# Altium schematic symbol library SE_Lib.SchLib: 12 symbols
Pins are listed as number, name and electrical type; pins without a type are passive.

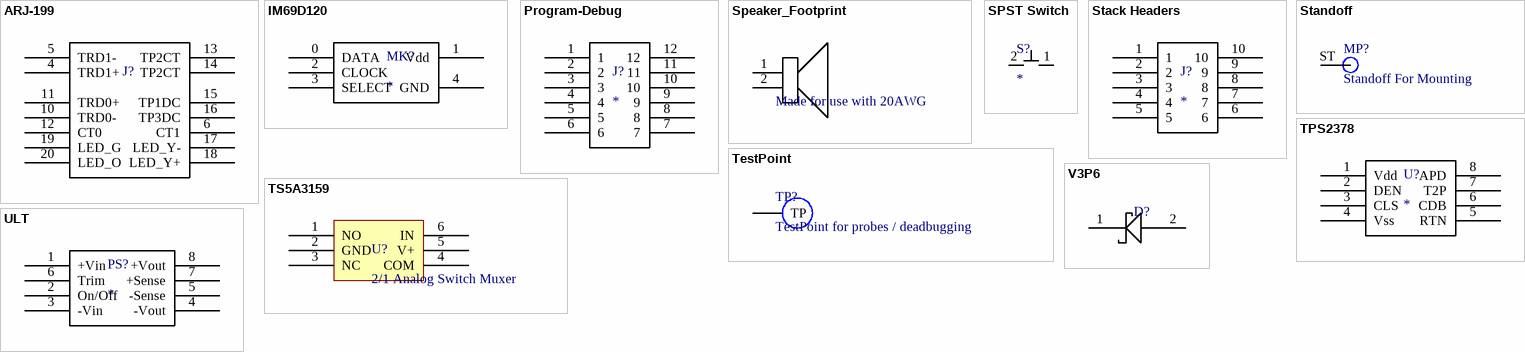
[diagram p0: symbols ARJ-199 to V3P6]

## ARJ-199
designator J?
MagJack POE+ Jack
footprint ARJ-199 (MagJack for POE+ Applications)
pins: 4 TRD1+, 5 TRD1-, 6 CT1, 10 TRD0-, 11 TRD0+, 12 CT0, 13 TP2CT, 14 TP2CT, 15 TP1DC, 16 TP3DC, 17 LED_Y-, 18 LED_Y+, 19 LED_G, 20 LED_O

## IM69D120
designator MK?
High Performance MEMS microphone utilizing PDM; ComponentLink1Description: Datasheet; ComponentLink1URL: https://www.infineon.com/dgdl/Infineon-IM69D120-DS-v01_00-EN.pdf?fileId=5546d462602a9dc801607a0e41a01a2b
footprint M69D120 (MEMS Microphone Package); pin to pad 0>1 1>2 2>3 3>4 4>5
pins: 0 DATA, 1 Vdd, 2 CLOCK, 3 SELECT, 4 GND

## Program-Debug
designator J?
footprint SSW_Double_Header (For Use with Programming and debug headers)
pins: 1, 2, 3, 4, 5, 6, 7, 8, 9, 10, 11, 12

## Speaker_Footprint
designator General Speaker Footprint, comment Made for use with 20AWG
footprint Speaker
pins: 1 3, 2 4

## SPST Switch
designator S?
footprint TL1105 (Right Angle button footprint)
pins: 1, 2

## Stack Headers
designator J?
footprint TSW-105 (For use in the stack as the upfacing connection)
footprint SSW-105 (For use in the stack as the downfacing connection)
pins: 1, 2, 3, 4, 5, 6, 7, 8, 9, 10

## Standoff
designator MP?, comment Standoff For Mounting
footprint STO
pins: ST 1

## TestPoint
designator TP?, comment TestPoint for probes / deadbugging
footprint TestPoint
pins: TP

## TPS2378
designator U?
POE Manager IC; ComponentLink1Description: Datasheet; ComponentLink1URL: http://www.ti.com/lit/ds/symlink/tps2378.pdf
footprint 8SOPWR (TI SO 8 w/ Power Pad)
pins: 1 Vdd, 2 DEN, 3 CLS, 4 Vss, 5 RTN, 6 CDB, 7 T2P, 8 APD

## TS5A3159
designator U?, comment 2/1 Analog Switch Muxer
A 2 to 1 mux for reducing number of ADCs required
footprint SOT95P280X145-6N (SOT23, 6-Leads, Body 2.90x2.80mm, Pitch 0.95mm, IPC Medium Density)
pins: 1 NO, 2 GND, 3 NC, 4 COM, 5 V+, 6 IN

## ULT
designator PS?
+12V/2.5A DC/DC Converter, requires 36-75V input to power on.; ComponentLink1Description: Datasheet; ComponentLink1URL: https://power.murata.com/data/power/ult.pdf
footprint ULT-12/2.5 (ULT 1/32 Brick DC/DC)
pins: 1 +Vin, 2 On/Off, 3 -Vin, 4 -Vout, 5 -Sense, 6 Trim, 7 +Sense, 8 +Vout

## V3P6
designator D?, comment Shottkey Diode  (value not drawn)
ComponentLink1Description: Datasheet; ComponentLink1URL: https://www.vishay.com/docs/89344/v3p6.pdf
footprint DO-220AA (Diode Footprint)
pins: 1 -, 2 +